# EAGLE library part AT42QT2160 (library credit_card_midi)
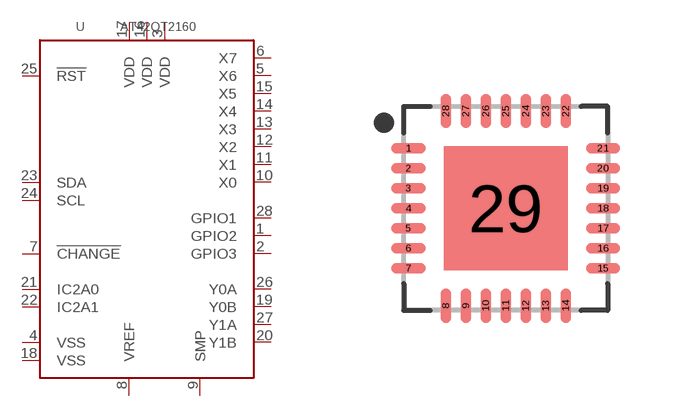
[diagram p0: symbol with the pads of AT42QT2160; footprint AT42QT2160]

Designator prefix -

## AT42QT2160  [AT42QT2160]
1  GPIO2  in
2  GPIO3  in
3  VDD  in
4  VSS  in
5  X6  in
6  X7  in
7  !CHANGE  in
8  VREF  in
9  SMP  in
10  X0  in
11  X1  in
12  X2  in
13  X3  in
14  X4  in
15  X5  in
16  VDD  in
17  VDD  in
18  VSS  in
19  Y0B  in
20  Y1B  in
21  IC2A0  in
22  IC2A1  in
23  SDA  in
24  SCL  in
25  !RST  in
26  Y0A  in
27  Y1A  in
28  GPIO1  in

## Footprint AT42QT2160 (pad centres in mm)
smd 0.86 x 0.264: 1 -2.435,1.5; 2 -2.435,1; 3 -2.435,0.5; 4 -2.435,0; 5 -2.435,-0.5; 6 -2.435,-1; 7 -2.435,-1.5; 15 2.435,-1.5; 16 2.435,-1; 17 2.435,-0.5; 18 2.435,0; 19 2.435,0.5; 20 2.435,1; 21 2.435,1.5
smd 0.264 x 0.86: 8 -1.5,-2.435; 9 -1,-2.435; 10 -0.5,-2.435; 11 0,-2.435; 12 0.5,-2.435; 13 1,-2.435; 14 1.5,-2.435; 22 1.5,2.435; 23 1,2.435; 24 0.5,2.435; 25 0,2.435; 26 -0.5,2.435; 27 -1,2.435; 28 -1.5,2.435
smd 3.1 x 3.1: 29 0,0